# Altium footprint library prosthesis.PcbLib: 35 footprints (part 3 of 3)
Each footprint in its own frame and in the unit in brackets; x right, y up, seen from the top. Pads: shape width x height; smd on the part's side, far side on the other; paste and mask are expansions set on the pad; w line width, h text height; cw(c..) or ccw(c..) is an arc to the next point about the centre after c.
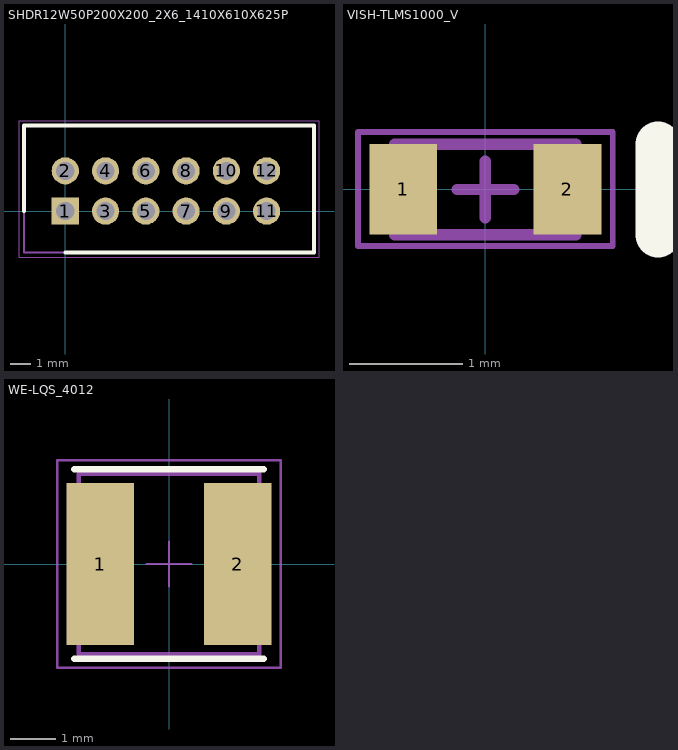
[diagram p2: the footprints below, top view; thin cyan lines are the x and y axes]

## SHDR12W50P200X200_2X6_1410X610X625P [mm]
pads (12):
  rect 1.35x1.35 hole 0.9: 1(0,0)
  round 1.35 hole 0.9: 2(0,2) 3(2,0) 4(2,2) 5(4,0) 6(4,2) 7(6,0) 8(6,2) 9(8,0) 10(8,2) 11(10,0) 12(10,2)
Top Overlay:
  lines w0.2: -2.05,0 -2.05,4.25 12.35,4.25 12.35,-2.05 0,-2.05
Top Assembly:
  lines w0.1: -2.05,-2.05 12.35,-2.05 12.35,4.25 -2.05,4.25 -2.05,-2.05
Top Courtyard:
  lines w0.05: -2.3,-2.3 12.6,-2.3 12.6,4.5 -2.3,4.5 -2.3,-2.3
3D body "1-2842282-2.stp": height 6, standoff -2.85, extent -2.1,-2.06 12,4.05

## VISH-TLMS1000_V [mm]
pads (2):
  rect 0.6x0.8 smd: 1(-0.725,0) 2(0.725,0)
Top Overlay:
  lines w0.4: 1.525,-0.4 1.525,0.4
Top Assembly:
  lines w0.1: -0.8,-0.4 0.8,-0.4 0.8,0.4 -0.8,0.4 -0.8,-0.4
Top Courtyard:
  lines w0.05: -1.125,0.5 -1.125,-0.5 1.125,-0.5 1.125,0.5 ; -1.125,0.508 1.125,0.508
  lines w0.1: -0.25,0 0.25,0 ; 0,-0.25 0,0.25
3D body: height 0.65, standoff 0, extent -0.8,-0.4 0.8,0.4

## WE-LQS_4012 [mm]
pads (2):
  rect 1.5x3.6 smd: 1(-1.525,0) 2(1.525,0)
Top Overlay:
  lines w0.15: -2.1,-2.1 2.1,-2.1 ; -2.1,2.1 2.1,2.1
Top 3D Body:
  lines w0.1: -2,-2 -2,2 2,2 2,-2 -2,-2
Top Component Outline:
  lines w0.1: -2,-2 -2,2 2,2 2,-2 -2,-2
Top Courtyard:
  lines w0.05: -0.5,0 0.5,0 ; 0,-0.5 0,0.5 ; -2.475,-2.3 2.475,-2.3 2.475,2.3 -2.475,2.3 -2.475,-2.3
Top Designator:
  text ".Designator" at -4.998,-0.333 h1
3D body "IndLQS_4012.stp": height 1.19, standoff -0.01, extent -2,-2 2,2